# Altium footprint library reciver_pcbSchLib.PcbLib: 11 footprints
Each footprint in its own frame and in the unit in brackets; x right, y up, seen from the top. Pads: shape width x height; smd on the part's side, far side on the other; paste and mask are expansions set on the pad; w line width, h text height; cw(c..) or ccw(c..) is an arc to the next point about the centre after c.
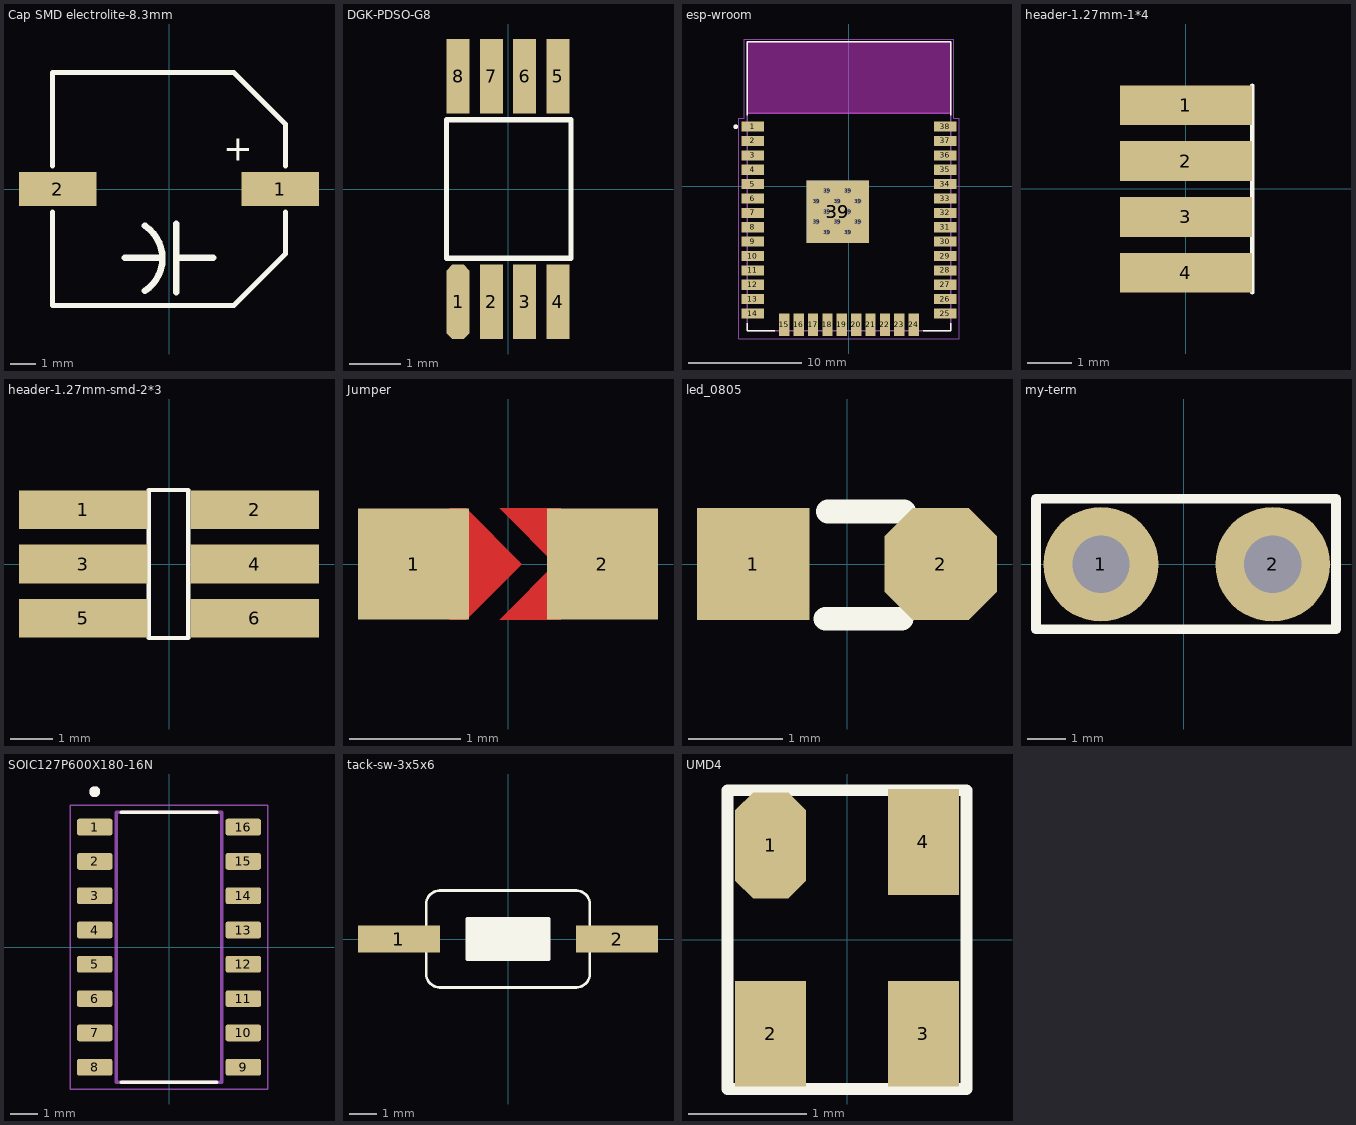
[diagram p0: the footprints below, top view; thin cyan lines are the x and y axes]

## Cap SMD electrolite-8.3mm [mm]
pads (2):
  rect 3x1.3 smd: 1(4.293,0) 2(-4.293,0)
Top Overlay:
  lines w0.2: -4.5,-0.9 -4.5,-4.5 2.5,-4.5 4.5,-2.5 4.5,-0.9 ; -4.5,0.9 -4.5,4.5 2.5,4.5 4.5,2.5 4.5,0.9
  lines w0.254: -1.715,-2.647 -0.365,-2.647 ; -0.935,-3.937 ccw(c-1.753,-2.68) -0.927,-1.427 ; 0.285,-3.977 0.285,-1.337 ; 0.365,-2.647 1.705,-2.647
  text "+" at 2.1,1.1 h1
3D body "CAP ALUM 8_3mm.STEP": height 10.5, standoff 0, extent -5.077,-4.15 4.823,4.15

## DGK-PDSO-G8 [mm]
pads (8):
  oct 0.45x1.45 smd mask+0.05: 1(-0.975,-2.2)
  rect 0.45x1.45 smd mask+0.05: 2(-0.325,-2.2) 3(0.325,-2.2) 4(0.975,-2.2) 5(0.975,2.2) 6(0.325,2.2) 7(-0.325,2.2) 8(-0.975,2.2)
Top Overlay:
  lines w0.1: -1.2,-1.35 1.225,-1.35 1.225,1.35 -1.2,1.35 -1.2,-1.35
  text "." at -1.5,-1.45 h0.4
3D body: height 1, standoff 0.1, extent -1.2,-1.35 1.225,1.35

## esp-wroom [mm]
pads (52):
  rect 2x0.9 smd: 1(-8.5,5.26) 2(-8.5,3.99) 3(-8.5,2.72) 4(-8.5,1.45) 5(-8.5,0.18) 6(-8.5,-1.09) 7(-8.5,-2.36) 8(-8.5,-3.63) 9(-8.5,-4.9) 10(-8.5,-6.17) 11(-8.5,-7.44) 12(-8.5,-8.71) 13(-8.5,-9.98) 14(-8.5,-11.25) 25(8.5,-11.25) 26(8.5,-9.98) 27(8.5,-8.71) 28(8.5,-7.44) 29(8.5,-6.17) 30(8.5,-4.9) 31(8.5,-3.63) 32(8.5,-2.36) 33(8.5,-1.09) 34(8.5,0.18) 35(8.5,1.45) 36(8.5,2.72) 37(8.5,3.99) 38(8.5,5.26)
  rect 0.9x2 smd: 15(-5.715,-12.25) 16(-4.445,-12.25) 17(-3.175,-12.25) 18(-1.905,-12.25) 19(-0.635,-12.25) 20(0.635,-12.25) 21(1.905,-12.25) 22(3.175,-12.25) 23(4.445,-12.25) 24(5.715,-12.25)
  round 0.8 hole 0.5: 39(-2.835,-3.157) 39(-2.835,-1.322) 39(-1.917,-4.075) 39(-1.917,-2.24) 39(-1.917,-0.405) 39(-1,-3.157) 39(-1,-1.322) 39(-0.082,-4.075) 39(-0.082,-2.24) 39(-0.082,-0.405) 39(0.835,-3.157) 39(0.835,-1.322)
  rect 5.5x5.5 smd mask+0.05: 39(-1,-2.25)
  rect 5.5x5.5 smd far side mask+0.05: 39(-1,-2.25)
Top Overlay:
  circle w0.2: c-10,5.25 r0.1
  lines w0.127: -9,-12.1 -9,-12.75 -6.55,-12.75 ; -9,6.25 -9,12.75 9,12.75 9,6.25 ; 6.55,-12.75 9,-12.75 9,-12.1
Keep-Out Layer:
  region: 9,6.45 -9,6.45 -9,12.75 9,12.75
  region: 9,6.45 -9,6.45 -9,12.75 9,12.75
Mechanical 13:
  circle w0.2: c-10,5.25 r0.1
  lines w0.127: -9,6.45 9,6.45 ; -9,6.45 -9,12.75 9,12.75 9,6.45 ; -9,6.45 -9,-12.75 9,-12.75 9,6.45
  text "ANTENNA" at -6,9 h1.78
Mechanical 15:
  lines w0.05: -9.75,-13.5 -9.75,6 -9.25,6 -9.25,13 9.25,13 9.25,6 9.75,6 9.75,-13.5 -9.75,-13.5
3D body "ESP32-WROOM-32D--3DModel-STEP-56544.STEP": height 3.25, standoff 0, extent -8.975,-12.75 9.025,12.75

## header-1.27mm-1*4 [mm]
pads (4):
  rect 3x0.9 smd mask+0.05: 1(0,1.905) 2(0,0.635) 3(0,-0.635) 4(0,-1.905)
Top Overlay:
  lines w0.1: 1.5,-2.35 1.5,2.35

## header-1.27mm-smd-2*3 [mm]
pads (6):
  rect 3x0.9 smd mask+0.05: 1(-2,1.27) 2(2,1.27) 3(-2,0) 4(2,0) 5(-2,-1.27) 6(2,-1.27)
Top Overlay:
  lines w0.1: -0.475,-1.725 0.45,-1.725 0.45,1.725 -0.475,1.725 -0.475,-1.725

## Jumper [mm]
pads (2):
  rect 1x1 smd mask+0.05: 1(-0.85,0) 2(0.85,0)
Top Layer:
  region: 0.475,0.5 -0.075,0.5 0.475,-0.05
  region: 0.475,0.05 0.475,-0.5 -0.075,-0.5
  region: -0.375,0.5 0.125,0 -0.375,-0.5 -0.525,-0.5 -0.525,0.5

## led_0805 [mm]
pads (2):
  rect 1.2x1.2 smd: 1(-1,0)
  oct 1.2x1.2 smd: 2(1,0)
Top Overlay:
  lines w0.254: -0.229,-0.584 0.584,-0.584 ; -0.203,0.559 0.61,0.559
3D body "LED-0805.step": height 1.1, standoff 0, extent -1.01,-0.625 1.01,0.625

## my-term [mm]
pads (2):
  round 3 hole 1.5: 1(-2.168,0) 2(2.325,0)
Top Overlay:
  lines w0.254: -3.868,-1.7 3.982,-1.7 3.982,1.713 -3.868,1.713 -3.868,-1.7

## SOIC127P600X180-16N [mm]
pads (16):
  rrect25% 1.31x0.62 smd: 1(-2.75,4.445) 2(-2.75,3.175) 3(-2.75,1.905) 4(-2.75,0.635) 5(-2.75,-0.635) 6(-2.75,-1.905) 7(-2.75,-3.175) 8(-2.75,-4.445) 9(2.75,-4.445) 10(2.75,-3.175) 11(2.75,-1.905) 12(2.75,-0.635) 13(2.75,0.635) 14(2.75,1.905) 15(2.75,3.175) 16(2.75,4.445)
Top Overlay:
  circle w0.2: c-2.75,5.755 r0.1
  lines w0.127: -1.775,-5 1.775,-5 ; -1.775,5 1.775,5
Mechanical 13:
  circle w0.2: c-2.75,5.755 r0.1
  lines w0.127: -1.95,-5 1.95,-5 1.95,5 -1.95,5 -1.95,-5
Mechanical 15:
  lines w0.05: -3.655,-5.25 3.655,-5.25 3.655,5.25 -3.655,5.25 -3.655,-5.25
3D body "step_temp.STEP": height 1.8, standoff 0, extent -3,-5 3,5

## tack-sw-3x5x6 [mm]
pads (2):
  rect 3x1 smd mask+0.05: 1(-4,0) 2(4,0)
Top Overlay:
  rectangle: -1.5,-0.75 1.5,0.75
  lines w0.1: -3,-1.275 ccw(c-2.5,-1.275) -2.5,-1.775 2.5,-1.775 ccw(c2.5,-1.275) 3,-1.275 3,1.275 ccw(c2.5,1.275) 2.5,1.775 -2.5,1.775 ccw(c-2.5,1.275) -3,1.275 -3,-1.275 ; -1.5,-0.75 -1.5,0.75 1.5,0.75 1.5,-0.75 -1.5,-0.75
3D body "RS-032G05A3-SM RT--3DModel-STEP-56544.STEP": height 4.3, standoff 0, extent -4,-1.75 4,1.75

## UMD4 [mm]
pads (4):
  oct 0.6x0.9 smd mask+0.05: 1(-0.65,0.8)
  rect 0.6x0.9 smd mask+0.05: 2(-0.65,-0.8) 3(0.65,-0.8) 4(0.65,0.83)
Top Overlay:
  lines w0.1: -1.016,-1.27 1.016,-1.27 1.016,1.27 -1.016,1.27 -1.016,-1.27
  text "." at -1.17,1.424 h0.4
3D body: height 1, standoff 0, extent -1.05,-0.425 1.05,0.5